# Altium footprint library CSD87352Q5D.PcbLib: 1 footprints
Each footprint in its own frame and in the unit in brackets; x right, y up, seen from the top. Pads: shape width x height; smd on the part's side, far side on the other; paste and mask are expansions set on the pad; w line width, h text height; cw(c..) or ccw(c..) is an arc to the next point about the centre after c.
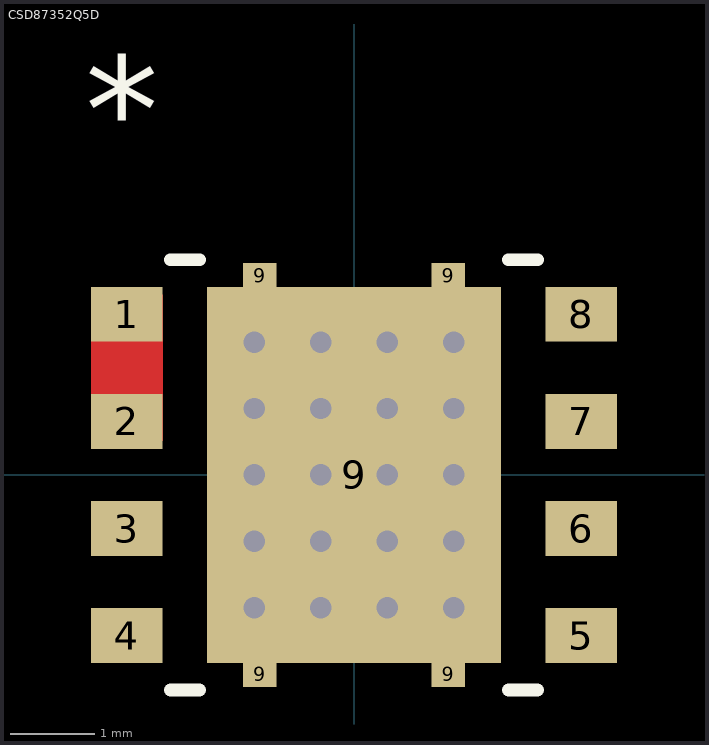
[diagram p0: the footprint, top view; thin cyan lines are the x and y axes]

## CSD87352Q5D [mm]
pads (13):
  rect 0.85x0.65 smd paste-0.412: 1(-2.692,1.905) 2(-2.692,0.635) 3(-2.692,-0.635) 4(-2.692,-1.905) 5(2.692,-1.905) 6(2.692,-0.635) 7(2.692,0.635) 8(2.692,1.905)
  rect 0.4x0.3 smd: 9(-1.118,-2.362) 9(-1.118,2.362) 9(1.118,-2.362) 9(1.118,2.362)
  rect 3.48x4.46 smd paste-2.217 mask-2.222: 9(0,0)
via -1.181,1.575 diameter 0.508 hole 0.254
via -0.394,1.575 diameter 0.508 hole 0.254
via 0.394,1.575 diameter 0.508 hole 0.254
via 1.181,1.575 diameter 0.508 hole 0.254
via 1.181,0.787 diameter 0.508 hole 0.254
via 0.394,0.787 diameter 0.508 hole 0.254
via -0.394,0.787 diameter 0.508 hole 0.254
via -1.181,0.787 diameter 0.508 hole 0.254
via -1.181,0 diameter 0.508 hole 0.254
via -0.394,0 diameter 0.508 hole 0.254
via 0.394,0 diameter 0.508 hole 0.254
via 1.181,0 diameter 0.508 hole 0.254
via 1.181,-0.787 diameter 0.508 hole 0.254
via 0.394,-0.787 diameter 0.508 hole 0.254
via -0.394,-0.787 diameter 0.508 hole 0.254
via -1.181,-0.787 diameter 0.508 hole 0.254
via -1.181,-1.575 diameter 0.508 hole 0.254
via -0.394,-1.575 diameter 0.508 hole 0.254
via 0.394,-1.575 diameter 0.508 hole 0.254
via 1.181,-1.575 diameter 0.508 hole 0.254
Top Layer:
  region: 0,-2.23
  region: 0,2.23
  region: -2.267,2.135 -3.117,2.135 -3.117,0.405 -2.267,0.405
Top Overlay:
  lines w0.152: -2.176,-2.55 -1.831,-2.55 ; -2.176,2.55 -1.831,2.55 ; 1.831,-2.55 2.176,-2.55 ; 1.831,2.55 2.176,2.55
  text "*" at -3.184,3.698 h1.27
Top Paste:
  drawing of 45 lines, arcs and shapes, not listed
Top Solder:
  region: 1.381,-2.293 1.381,2.293 1.804,2.293 1.804,-2.293
  region: 0.981,-2.293 0.981,2.293 0.594,2.293 0.594,-2.293
  region: 0.194,-2.293 0.194,2.293 -0.194,2.293 -0.194,-2.293
  region: -0.594,-2.293 -0.594,2.293 -0.981,2.293 -0.981,-2.293
  region: -1.804,-2.293 -1.804,2.293 -1.381,2.293 -1.381,-2.293
  region: -1.804,-2.293 -1.804,-1.775 1.804,-1.775 1.804,-2.293
  region: -1.804,-1.375 -1.804,-0.987 1.804,-0.987 1.804,-1.375
  region: -1.804,-0.587 -1.804,-0.2 1.804,-0.2 1.804,-0.587
  region: -1.804,0.2 -1.804,0.587 1.804,0.587 1.804,0.2
  region: -1.804,0.987 -1.804,1.375 1.804,1.375 1.804,0.987
  region: -1.804,1.775 -1.804,2.293 1.804,2.293 1.804,1.775
  region: 1.325,-2.23 0.925,-2.23 0.925,-2.575 1.325,-2.575
  region: -1.325,-2.23 -0.925,-2.23 -0.925,-2.575 -1.325,-2.575
  region: -1.325,2.23 -0.925,2.23 -0.925,2.575 -1.325,2.575
  region: 1.325,2.23 0.925,2.23 0.925,2.575 1.325,2.575
  region: 0,-2.23
  region: 0,2.23
  region: 3.187,2.3 2.197,2.3 2.197,1.51 3.187,1.51
  region: 3.187,1.03 2.197,1.03 2.197,0.24 3.187,0.24
  region: 3.187,-0.24 2.197,-0.24 2.197,-1.03 3.187,-1.03
  region: 3.187,-1.51 2.197,-1.51 2.197,-2.3 3.187,-2.3
  region: -2.197,-1.51 -3.187,-1.51 -3.187,-2.3 -2.197,-2.3
  region: -2.197,-0.24 -3.187,-0.24 -3.187,-1.03 -2.197,-1.03
  region: -2.197,1.03 -3.187,1.03 -3.187,0.24 -2.197,0.24
  region: -2.197,2.3 -3.187,2.3 -3.187,1.51 -2.197,1.51